# EAGLE library part MAX9867EWV+T (library PCB_Components)
Interface - CODECs Stereo Audio CODEC for Portable Devices Source: Datasheet <http://datasheets.maximintegrated.com/en/ds/MAX9867.pdf>
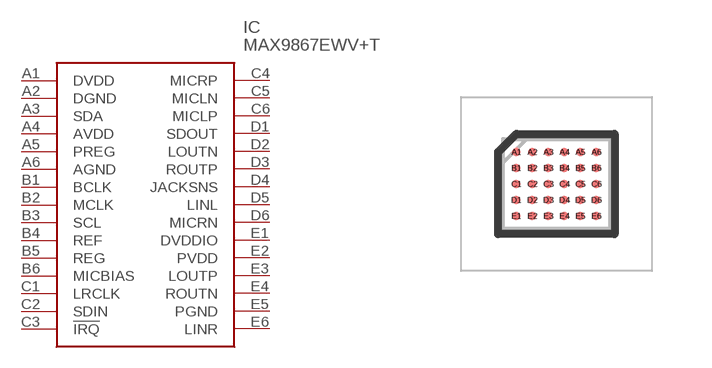
[diagram p6: symbol with the pads of BGA30C40P6X5_267X226X69; footprint BGA30C40P6X5_267X226X69]

Designator prefix IC

## MAX9867EWV+T (DESCRIPTION: Interface - CODECs Stereo Audio CODEC for Portable Devices; HEIGHT: 0.69mm; MANUFACTURER_NAME: Maxim Integrated; MANUFACTURER_PART_NUMBER: MAX9867EWV+T; MOUSER_PART_NUMBER: 700-MAX9867EWVT; MOUSER_PRICE-STOCK: https://www.mouser.co.uk/ProductDetail/Maxim-Integrated/MAX9867EWV%2bT?qs=7H2Jq%252ByxpJLCHiFC7CWDuA%3D%3D)  [BGA30C40P6X5_267X226X69]
A1  DVDD
A2  DGND
A3  SDA
A4  AVDD
A5  PREG
A6  AGND
B1  BCLK
B2  MCLK
B3  SCL
B4  REF
B5  REG
B6  MICBIAS
C1  LRCLK
C2  SDIN
C3  !IRQ
C4  MICRP
C5  MICLN
C6  MICLP
D1  SDOUT
D2  LOUTN
D3  ROUTP
D4  JACKSNS
D5  LINL
D6  MICRN
E1  DVDDIO
E2  PVDD
E3  LOUTP
E4  ROUTN
E5  PGND
E6  LINR

## Footprint BGA30C40P6X5_267X226X69 (pad centres in mm)
30 WLP_W302A2+3
smd 0.208 x 0.208: A1 -1,0.8; A2 -0.6,0.8; A3 -0.2,0.8; A4 0.2,0.8; A5 0.6,0.8; A6 1,0.8; B1 -1,0.4; B2 -0.6,0.4; B3 -0.2,0.4; B4 0.2,0.4; B5 0.6,0.4; B6 1,0.4; C1 -1,0; C2 -0.6,0; C3 -0.2,0; C4 0.2,0; C5 0.6,0; C6 1,0; D1 -1,-0.4; D2 -0.6,-0.4; D3 -0.2,-0.4; D4 0.2,-0.4; D5 0.6,-0.4; D6 1,-0.4; E1 -1,-0.8; E2 -0.6,-0.8; E3 -0.2,-0.8; E4 0.2,-0.8; E5 0.6,-0.8; E6 1,-0.8